# Altium footprint library PE-65612NL.PcbLib: 2 footprints
Each footprint in its own frame and in the unit in brackets; x right, y up, seen from the top. Pads: shape width x height; smd on the part's side, far side on the other; paste and mask are expansions set on the pad; w line width, h text height; cw(c..) or ccw(c..) is an arc to the next point about the centre after c.
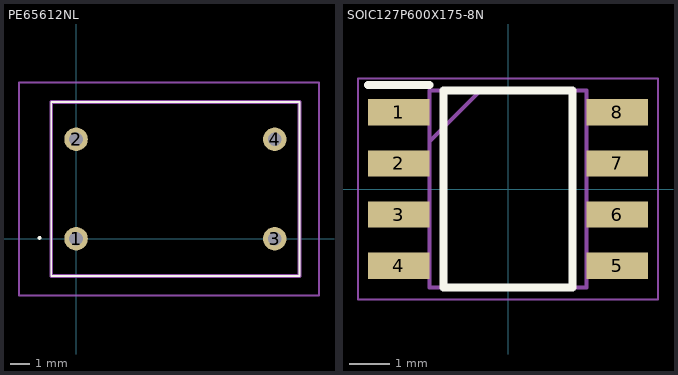
[diagram p0: the footprints below, top view; thin cyan lines are the x and y axes]

## PE65612NL [mm]
pads (4):
  round 1.2 hole 0.7: 1(0,0) 2(0,5.08) 3(10.16,0) 4(10.16,5.08)
F.SilkS:
  lines w0.1: -1.92,0.04 ccw(c-1.87,0.04) -1.82,0.04 ccw(c-1.87,0.04) -1.92,0.04 ; -1.27,-1.905 -1.27,6.985 11.43,6.985 11.43,-1.905 -1.27,-1.905
F.CrtYd:
  lines w0.1: -2.92,-2.905 -2.92,7.985 12.43,7.985 12.43,-2.905 -2.92,-2.905
F.Fab:
  lines w0.2: -1.27,-1.905 -1.27,6.985 11.43,6.985 11.43,-1.905 -1.27,-1.905
  text "'.Designator'" at 2.929,2.034 h1.27

## SOIC127P600X175-8N [mm]
pads (8):
  rect 1.525x0.65 smd: 1(-2.712,1.905) 2(-2.712,0.635) 3(-2.712,-0.635) 4(-2.712,-1.905) 5(2.712,-1.905) 6(2.712,-0.635) 7(2.712,0.635) 8(2.712,1.905)
F.SilkS:
  lines w0.2: -3.475,2.58 -1.95,2.58 ; -1.6,-2.45 1.6,-2.45 1.6,2.45 -1.6,2.45 -1.6,-2.45
Dwgs.User:
  lines w0.05: -3.725,-2.75 3.725,-2.75 3.725,2.75 -3.725,2.75 -3.725,-2.75
  lines w0.1: -1.95,1.18 -0.68,2.45 ; -1.95,-2.45 1.95,-2.45 1.95,2.45 -1.95,2.45 -1.95,-2.45